# EAGLE library part ADAFRUIT_TRINKET_MINI_MICROCONTROLLER_3_3V_LOGIC (library Adafruit)
Adafruit Trinket - Mini Microcontroller - 3.3V Logic Adafruit Trinket - Mini Microcontroller - 3.3V Logic Further information:http://adafru.it/1500 Cost:$7.95
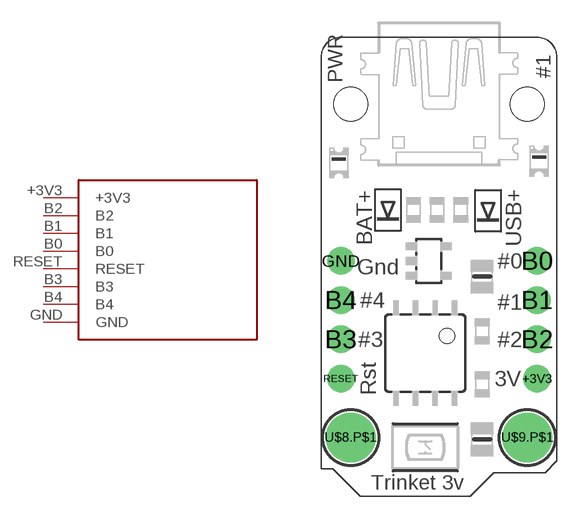
[diagram p9: symbol with the pads of ADAFRUIT_TRINKET_MINI_MICROCONTROLLER_3_3V_LOGIC; footprint ADAFRUIT_TRINKET_MINI_MICROCONTROLLER_3_3V_LOGIC]

Designator prefix -

## ADAFRUIT_TRINKET_MINI_MICROCONTROLLER_3_3V_LOGIC-BOB  [ADAFRUIT_TRINKET_MINI_MICROCONTROLLER_3_3V_LOGIC]
+3V3  +3V3
B0  B0
B1  B1
B2  B2
B3  B3
B4  B4
GND  GND
RESET  RESET

## Footprint ADAFRUIT_TRINKET_MINI_MICROCONTROLLER_3_3V_LOGIC (pad centres in mm)
drill 1.016 pad 1.778: +3V3 6.35,-6.35; B0 6.35,1.27; B1 6.35,-1.27; B2 6.35,-3.81; B3 -6.35,-3.81; B4 -6.35,-1.27; GND -6.35,1.27; RESET -6.35,-6.35
drill 2.2 pad 3: U$8.P$1 -5.715,-10.16; U$9.P$1 5.715,-10.16
hole 2.2 at -5.715,11.43
hole 2.2 at 5.715,11.43